# Altium schematic symbol library SSQ-104-02-S-S.SchLib: 1 symbol
Pins are listed as number, name and electrical type; pins without a type are passive.

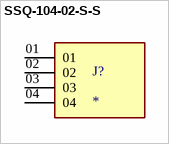
[diagram p0: symbol SSQ-104-02-S-S]

## SSQ-104-02-S-S
designator J?
MF: {'manufacturer': u'Samtec Inc.'}; MP: SSQ-104-02-S-S; Package: None; Price: None; Value: *; Availability: Unavailable
footprint SAMTEC_SSQ-104-02-S-S
pins: 01, 02, 03, 04